# EAGLE library part 929850-01-24-RA (library SamacSys_Parts)
24 Position Receptacle Connector 0.100" (2.54mm) Through Hole Gold Source: Datasheet <http://multimedia.3m.com/mws/media/22500O/3mtm-boardmount-skt-100-100x-100strt-sldr-tails-ts0815.pdf>
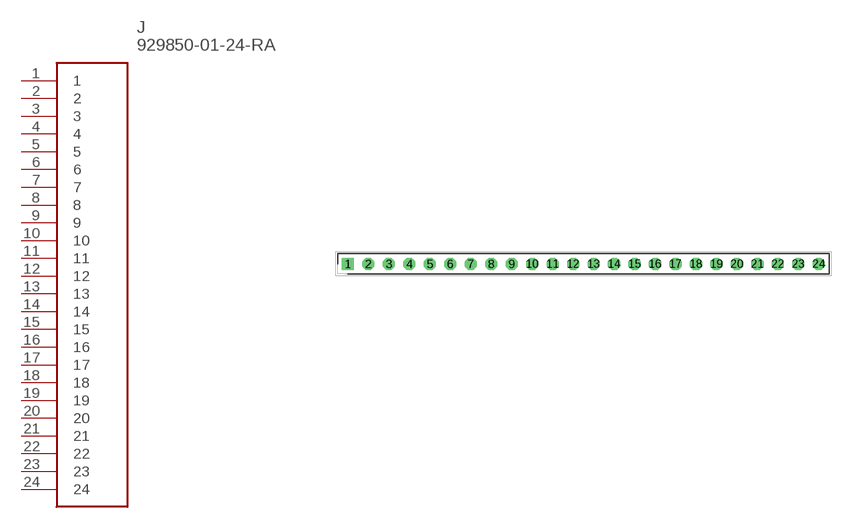
[diagram p243: symbol with the pads of RHDR24W76P0X254_1X24_6096X254X; footprint RHDR24W76P0X254_1X24_6096X254X]

Designator prefix J

## 929850-01-24-RA (DESCRIPTION: 24 Position Receptacle Connector 0.100" (2.54mm) Through Hole Gold; HEIGHT: 8.26mm; MANUFACTURER_NAME: 3M; MANUFACTURER_PART_NUMBER: 929850-01-24-RA; MOUSER_PART_NUMBER: 517-929850-01-24-RA; MOUSER_PRICE-STOCK: https://www.mouser.co.uk/ProductDetail/3M-Electronic-Solutions-Division/929850-01-24-RA?qs=neFkstNq%252B6EsPZcdJ1Xv6A%3D%3D)  [RHDR24W76P0X254_1X24_6096X254X]
1  1
2  2
3  3
4  4
5  5
6  6
7  7
8  8
9  9
10  10
11  11
12  12
13  13
14  14
15  15
16  16
17  17
18  18
19  19
20  20
21  21
22  22
23  23
24  24

## Footprint RHDR24W76P0X254_1X24_6096X254X (pad centres in mm)
24 Position Receptacle
drill 1 square: 1 0,0
drill 1 octagon: 2 2.54,0; 3 5.08,0; 4 7.62,0; 5 10.16,0; 6 12.7,0; 7 15.24,0; 8 17.78,0; 9 20.32,0; 10 22.86,0; 11 25.4,0; 12 27.94,0; 13 30.48,0; 14 33.02,0; 15 35.56,0; 16 38.1,0; 17 40.64,0; 18 43.18,0; 19 45.72,0; 20 48.26,0; 21 50.8,0; 22 53.34,0; 23 55.88,0; 24 58.42,0